# Altium schematic symbol library 7.Connectors.SchLib: 126 symbols
Pins are listed as number, name and electrical type; pins without a type are passive.

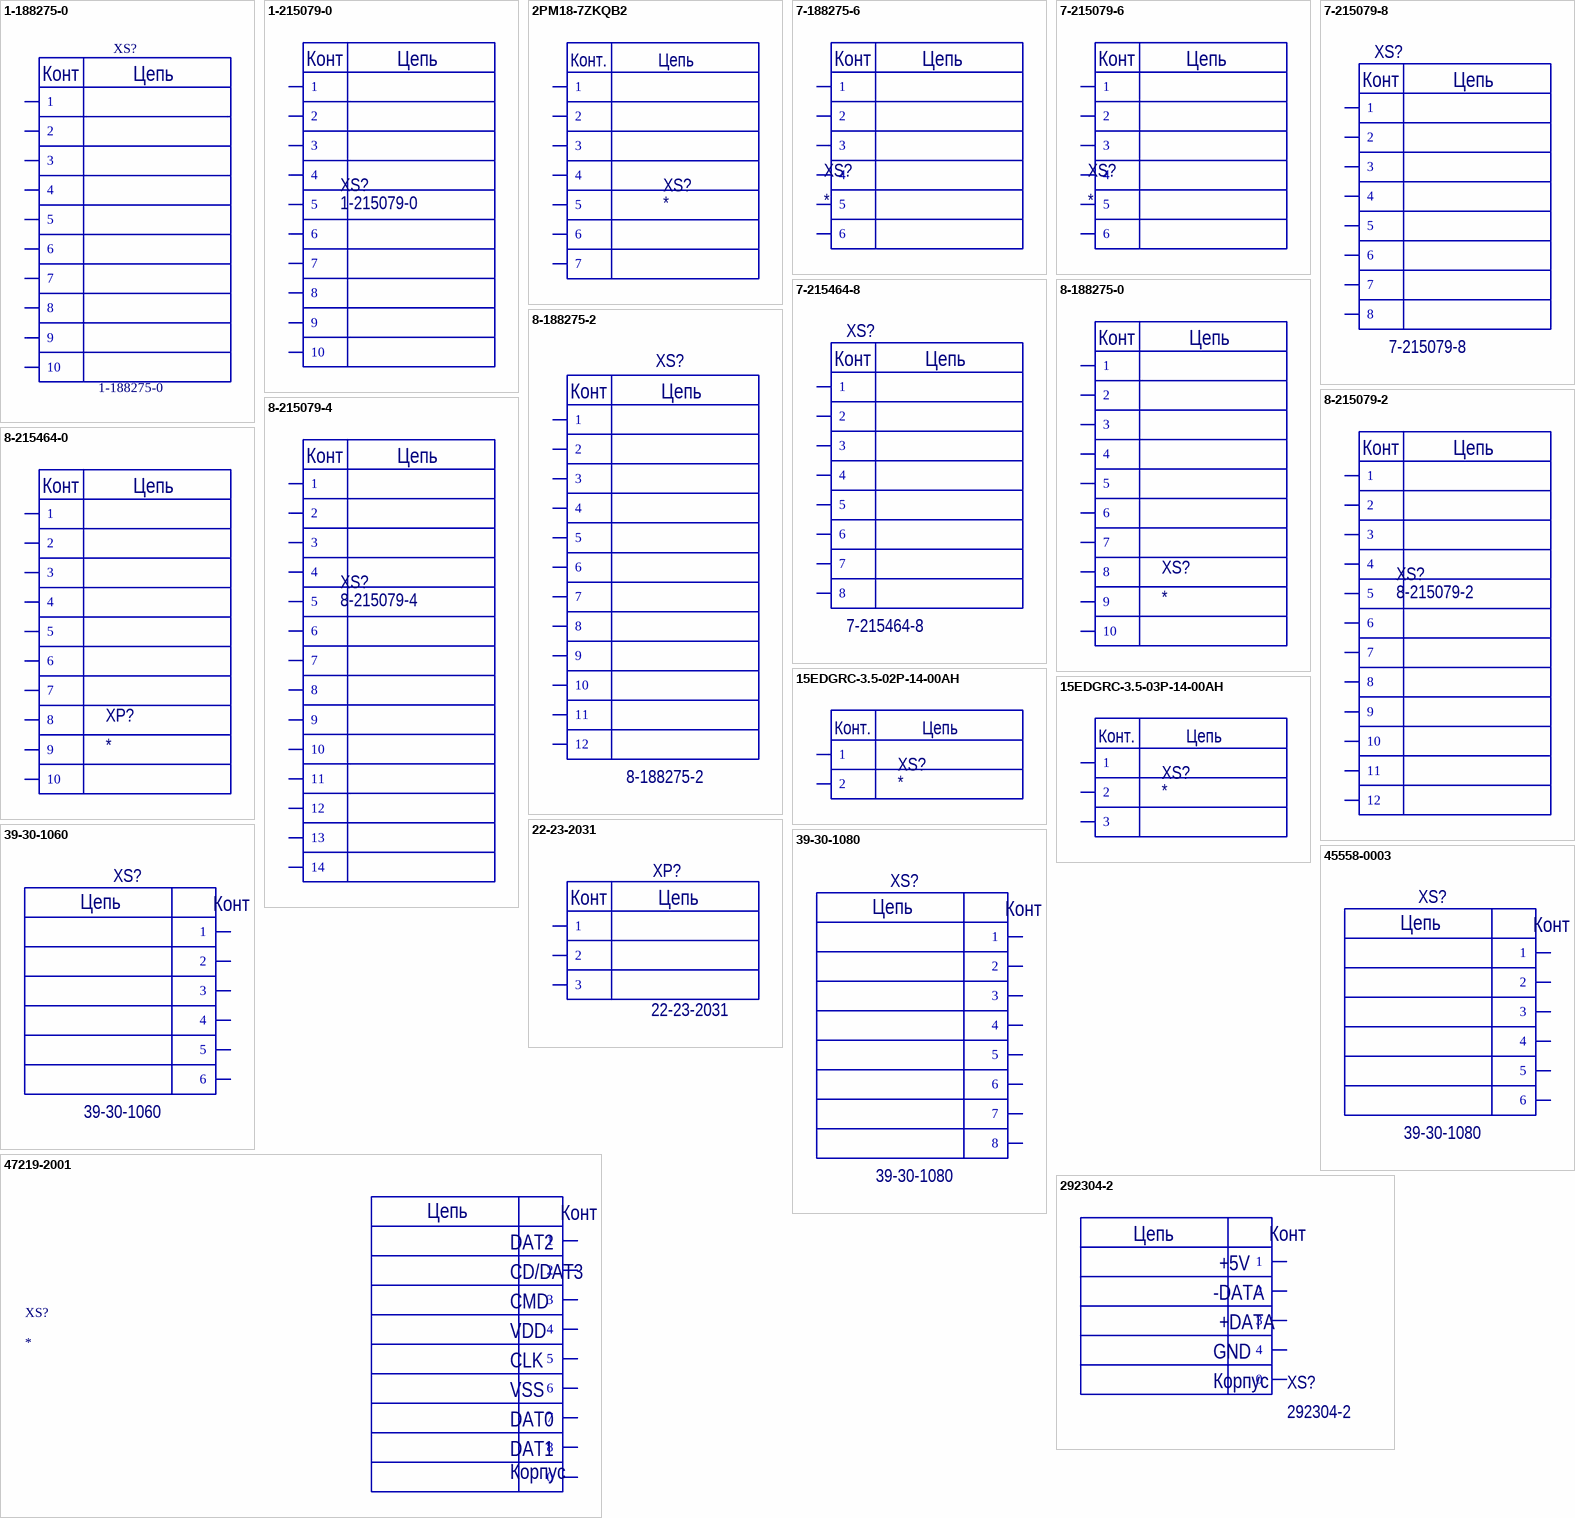
[diagram p0: symbols 1-188275-0 to 292304-2]

## 1-188275-0
designator XS?
Разъем типа плата-плата, 1.27 мм, 10 контактов
footprint 1-188275-0
pins: 1, 2, 3, 4, 5, 6, 7, 8, 9, 10
text: Конт; Цепь

## 1-215079-0
designator XS?
CONNECTOR, RCPT, 10POS, 2ROW, 1.27MM
footprint 1-215079-0
pins: 1, 2, 3, 4, 5, 6, 7, 8, 9, 10
text: Конт; Цепь

## 2PM18-7ZKQB2
designator XS?
footprint 2PM18-7ZKQB2 - duplicate
pins: 1, 2, 3, 4, 5, 6, 7
text: Конт.; Цепь

## 7-188275-6
designator XS?
footprint 7-188275-6
pins: 1, 2, 3, 4, 5, 6
text: Конт; Цепь

## 7-215079-6
designator XS?
footprint 7-215079-6 (Footprint not found)
pins: 1, 2, 3, 4, 5, 6
text: Конт; Цепь

## 7-215079-8
designator XS?
footprint 7-215079-8 (XS?)
pins: 1, 2, 3, 4, 5, 6, 7, 8
text: Конт; Цепь

## 7-215464-8
designator XS?
footprint 7-215464-8 (XS?)
pins: 1, 2, 3, 4, 5, 6, 7, 8
text: Конт; Цепь

## 8-188275-0
designator XS?
footprint 8-188275-0 (XS?)
pins: 1, 2, 3, 4, 5, 6, 7, 8, 9, 10
text: Конт; Цепь

## 8-188275-2
designator XS?
CONNECTOR, RCPT, 12POS, 2ROW, 1.27MM; Manufacturer_Name: TE Connectivity; Datasheet Link: http://www.te.com/commerce/DocumentDelivery/DDEController?Action=showdoc&DocId=Customer+Drawing%7F188275%7FS4%7Fpdf%7FEnglish%7FENG_CD_188275_S4.pdf%7F8-188275-2; Height: 5.3mm; Manufacturer_Part_Number: 8-188275-2; Mouser Part Number: 571-8-188275-2; Mouser Price/Stock: https://www.mouser.co.uk/ProductDetail/TE-Connectivity/8-188275-2?qs=Gsfs9aLB8bdKFI6G%252B37f8A%3D%3D; Arrow Part Number: 8-188275-2; Arrow Price/Stock: https://www.arrow.com/en/products/8-188275-2/te-connectivity?region=nac
footprint 81882752
pins: 1, 2, 3, 4, 5, 6, 7, 8, 9, 10, 11, 12
text: Конт; Цепь

## 8-215079-2
designator XS?
CONNECTOR, RCPT, 14POS, 2ROW, 1.27MM
footprint 8-215079-2
pins: 1, 2, 3, 4, 5, 6, 7, 8, 9, 10, 11, 12
text: Конт; Цепь

## 8-215079-4
designator XS?
CONNECTOR, RCPT, 14POS, 2ROW, 1.27MM
footprint 8-215079-4 (Footprint not found)
pins: 1, 2, 3, 4, 5, 6, 7, 8, 9, 10, 11, 12, 13, 14
text: Конт; Цепь

## 8-215464-0
designator XP?
footprint 8-215464-0
pins: 1, 2, 3, 4, 5, 6, 7, 8, 9, 10
text: Конт; Цепь

## 15EDGRC-3.5-02P-14-00AH
designator XS?
footprint 15EDGRC-3.5-02P
pins: 1, 2
text: Конт.; Цепь

## 15EDGRC-3.5-03P-14-00AH
designator XS?
footprint 15EDGRC-3.5-03P
pins: 1, 2, 3
text: Конт.; Цепь

## 22-23-2031
designator XP?
footprint 22-23-2031 (Footprint not found)
pins: 1, 2, 3
text: Конт; Цепь

## 39-30-1060
designator XS?
Разъем типа провод-плата, 4.2 мм, 6 контактов; Manufacturer_Name: Molex; Datasheet Link: https://www.molex.com/pdm_docs/sd/039300020_sd.pdf; Height: 10mm; Manufacturer_Part_Number: 39-30-1060; Mouser Part Number: 538-39-30-1060; Mouser Price/Stock: https://www.mouser.co.uk/ProductDetail/Molex/39-30-1060?qs=tRPrwvvr%2FujbUr18ehTIWQ%3D%3D
footprint 39-30-106Y_012
pins: 1, 2, 3, 4, 5, 6
text: Цепь; Конт

## 39-30-1080
designator XS?
Разъем типа провод-плата, вертикальный, 8 контакт(-ов), шаг 4.2мм Штыревой Разъем угловой серия Mini-Fit монтаж в отверстие; Manufacturer_Name: Molex; Datasheet Link: https://www.molex.com/pdm_docs/sd/039300020_sd.pdf; Height: 10mm; Manufacturer_Part_Number: 39-30-1080; Mouser Part Number: 538-39-30-1080; Mouser Price/Stock: https://www.mouser.co.uk/ProductDetail/Molex/39-30-1080?qs=tRPrwvvr%2FuiZl%252BsjwLcglw%3D%3D
footprint 39301080
pins: 1, 2, 3, 4, 5, 6, 7, 8
text: Цепь; Конт

## 45558-0003
designator XS?, comment 39-30-1080
Разъем типа провод-плата, вертикальный, 6 контакт(-ов), шаг 4.2мм Штыревой Разъем угловой серия Mini-Fit монтаж в отверстие; Manufacturer_Name: Molex; Datasheet Link: https://www.molex.com/pdm_docs/sd/039300020_sd.pdf; Height: 10mm; Manufacturer_Part_Number: 39-30-1080; Mouser Part Number: 538-39-30-1080; Mouser Price/Stock: https://www.mouser.co.uk/ProductDetail/Molex/39-30-1080?qs=tRPrwvvr%2FuiZl%252BsjwLcglw%3D%3D
footprint 455580003
pins: 1, 2, 3, 4, 5, 6
text: Цепь; Конт

## 47219-2001
designator XS?
micro SD connector; Manufacturer_Name: Molex; Manufacturer_Part_Number: 47219-2001; Datasheet Link: http://www.molex.com/molex/products/datasheet.jsp?part=active/0472192001_MEMORY_CARD_SOCKET.xml&channel=Products&Lang=en-US; Mouser Part Number: 538-47219-2001; Mouser Price/Stock: https://www.mouser.co.uk/ProductDetail/Molex/47219-2001?qs=6kT3pPPHxnVaoXw6Dd7beQ%3D%3D
footprint 472192001
pins: 0, 1, 2, 3, 4, 5, 6, 7, 8
text: Цепь; Конт; DAT2; CD/DAT3; CMD; VDD; CLK; VSS; DAT0; DAT1; Корпус

## 292304-2
designator XS?
footprint USB-B
pins: 0, 1, 2, 3, 4
text: Цепь; Конт; +5V; -DATA; +DATA; GND; Корпус

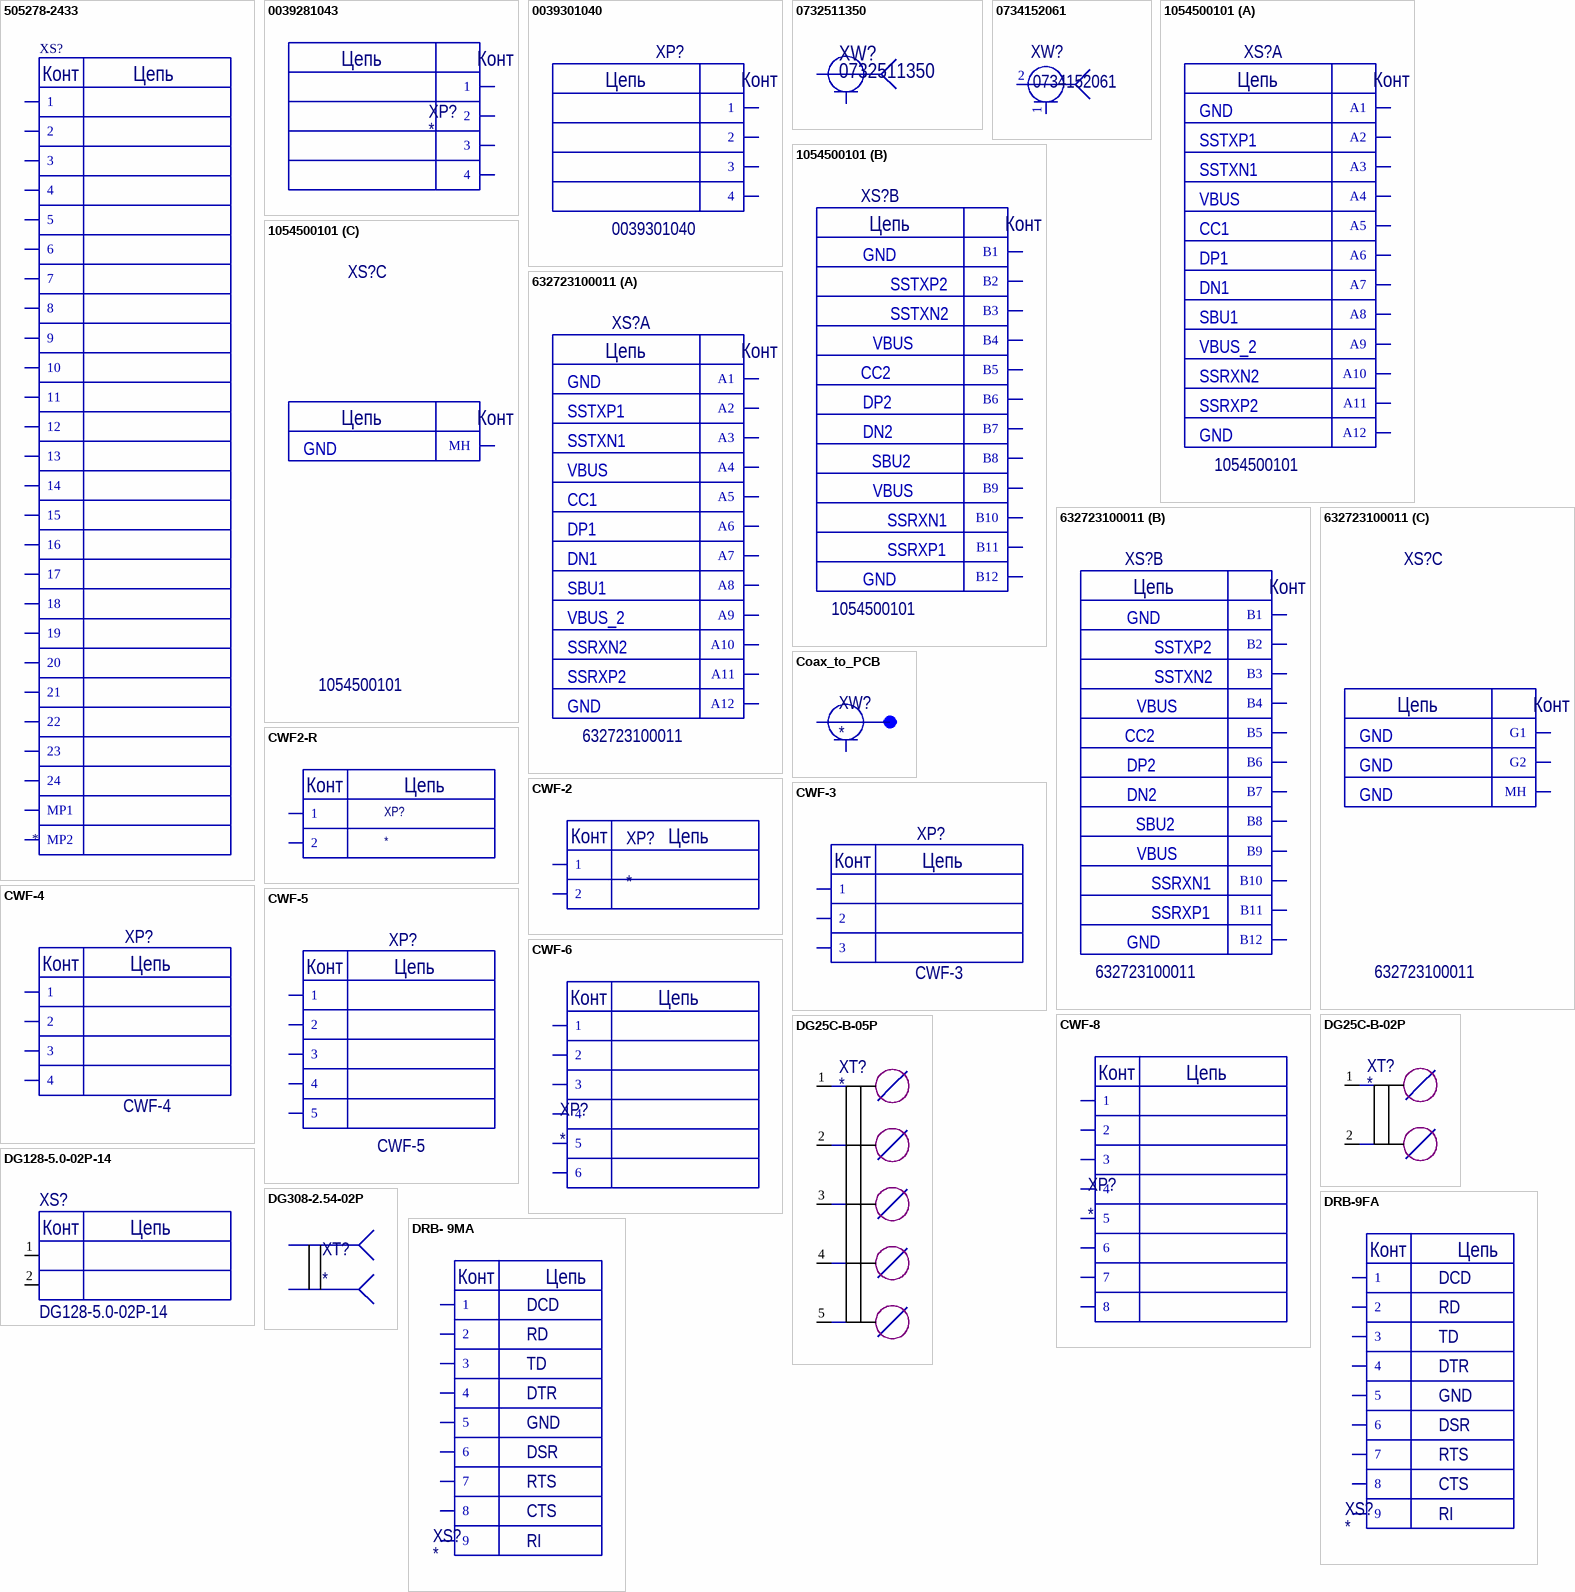
[diagram p1: symbols 505278-2433 to DRB- 9MA]

## 505278-2433
designator XS?
Connector; Manufacturer_Name: Molex; Manufacturer_Part_Number: 505278-2433; Datasheet Link: https://www.molex.com/pdm_docs/sd/5052782433_sd.pdf; Height: 2.15mm; Mouser Part Number: 538-505278-2433; Mouser Price/Stock: https://www.mouser.co.uk/ProductDetail/Molex/505278-2433?qs=c8NFF48pVsA%2FR7fI7C8RJQ%3D%3D
footprint 5052782433
pins: 1, 2, 3, 4, 5, 6, 7, 8, 9, 10, 11, 12, 13, 14, 15, 16, 17, 18, 19, 20, 21, 22, 23, 24, MP1, MP2
text: Конт; Цепь

## 0039281043
designator XP?
CONN HEADER VERT 4POS 4.2MM
footprint 0039281043 (CONN HEADER VERT 4POS 4.2MM)
pins: 1, 2, 3, 4
text: Цепь; Конт

## 0039301040
designator XP?
CONN 4POS 4.2MM Серия Mini-Fit Jr, гнездо, "папа", PIN 4
footprint 0039301040 (Серия Mini-Fit Jr, гнездо, "папа", PIN 4)
pins: 1, 2, 3, 4
text: Цепь; Конт

## 0732511350
designator XW?
SMA SMD
footprint 0732511350
pins: 1, 2

## 0734152061
designator XW?
MMCX STRAIGHT, SMT JACK- 50 OHM.; MANUFACTURER: SAMTEC; PCB DECAL: MMCX-J-P-X-ST-SM1; CREATED: April 14, 2016 - Wendy Xin
footprint MMCX-J-P-X-ST-SM1 (0734152061)
pins: 1, 2

## 1054500101
designator XS?
SB-разъем; Type C; USB 3.1; 30 В; 5 А; розетка; угловой, -30…85 °С; SMD
footprint 1054500101
footprint 1054500101 - 0,2
part A pins: A1 "GND", A2 "SSTXP1", A3 "SSTXN1", A4 "VBUS", A5 "CC1", A6 "DP1", A7 "DN1", A8 "SBU1", A9 "VBUS_2", A10 "SSRXN2", A11 "SSRXP2", A12 "GND"
part B pins: B1 "GND", B2 "SSTXP2", B3 "SSTXN2", B4 "VBUS", B5 "CC2", B6 "DP2", B7 "DN2", B8 "SBU2", B9 "VBUS", B10 "SSRXN1", B11 "SSRXP1", B12 "GND"
part C pins: MH
part A text: Цепь; Конт; GND; SSTXP1; SSTXN1; VBUS; CC1; DP1; DN1; SBU1; VBUS_2; SSRXN2; SSRXP2
part B text: Цепь; Конт; GND; SSTXP2; SSTXN2; VBUS; CC2; DP2; DN2; SBU2; SSRXN1; SSRXP1
part C text: Цепь; Конт; GND

## 632723100011
designator XS?
USB 3.1 Type C
footprint 632723100011 (USB 3.1 Type C)
part A pins: A1 "GND", A2 "SSTXP1", A3 "SSTXN1", A4 "VBUS", A5 "CC1", A6 "DP1", A7 "DN1", A8 "SBU1", A9 "VBUS_2", A10 "SSRXN2", A11 "SSRXP2", A12 "GND"
part B pins: B1 "GND", B2 "SSTXP2", B3 "SSTXN2", B4 "VBUS", B5 "CC2", B6 "DP2", B7 "DN2", B8 "SBU2", B9 "VBUS", B10 "SSRXN1", B11 "SSRXP1", B12 "GND"
part C pins: G1 "GND", G2 "GND", MH
part A text: Цепь; Конт; GND; SSTXP1; SSTXN1; VBUS; CC1; DP1; DN1; SBU1; VBUS_2; SSRXN2; SSRXP2
part B text: Цепь; Конт; GND; SSTXP2; SSTXN2; VBUS; CC2; DP2; DN2; SBU2; SSRXN1; SSRXP1
part C text: Цепь; Конт; GND

## Coax_to_PCB
designator XW?
footprint COAX_TO_PCB
pins: 1, 2

## CWF2-R
designator XP?
footprint CWF-2R
pins: 1, 2
text: Конт; Цепь

## CWF-2
designator XP?
footprint CWF-2
pins: 1, 2
text: Конт; Цепь

## CWF-3
designator XP?
footprint CWF-3 (Footprint not found)
pins: 1, 2, 3
text: Конт; Цепь

## CWF-4
designator XP?
footprint CWF-4
pins: 1, 2, 3, 4
text: Конт; Цепь

## CWF-5
designator XP?
footprint CWF-5
pins: 1, 2, 3, 4, 5
text: Конт; Цепь

## CWF-6
designator XP?
footprint CWF-6
pins: 1, 2, 3, 4, 5, 6
text: Конт; Цепь

## CWF-8
designator XP?
footprint CWF-8
pins: 1, 2, 3, 4, 5, 6, 7, 8
text: Конт; Цепь

## DG25C-B-02P
designator XT?
footprint DG25C-B-02P
pins: 1, 2

## DG25C-B-05P
designator XT?
footprint DG25C-B-05P
pins: 1, 2, 3, 4, 5

## DG128-5.0-02P-14
designator XS?
footprint DG128-5.0-02P-14
pins: 1, 2
text: Конт; Цепь

## DG308-2.54-02P
designator XT?
footprint DG308-2.54-02P
pins: 1, 2

## DRB-9FA
designator XS?
footprint DRB-9FA
pins: 1, 2, 3, 4, 5, 6, 7, 8, 9
text: Конт; Цепь; DCD; RD; TD; DTR; GND; DSR; RTS; CTS; RI

## DRB- 9MA
designator XS?
footprint DRB- 9MA
pins: 1, 2, 3, 4, 5, 6, 7, 8, 9
text: Конт; Цепь; DCD; RD; TD; DTR; GND; DSR; RTS; CTS; RI

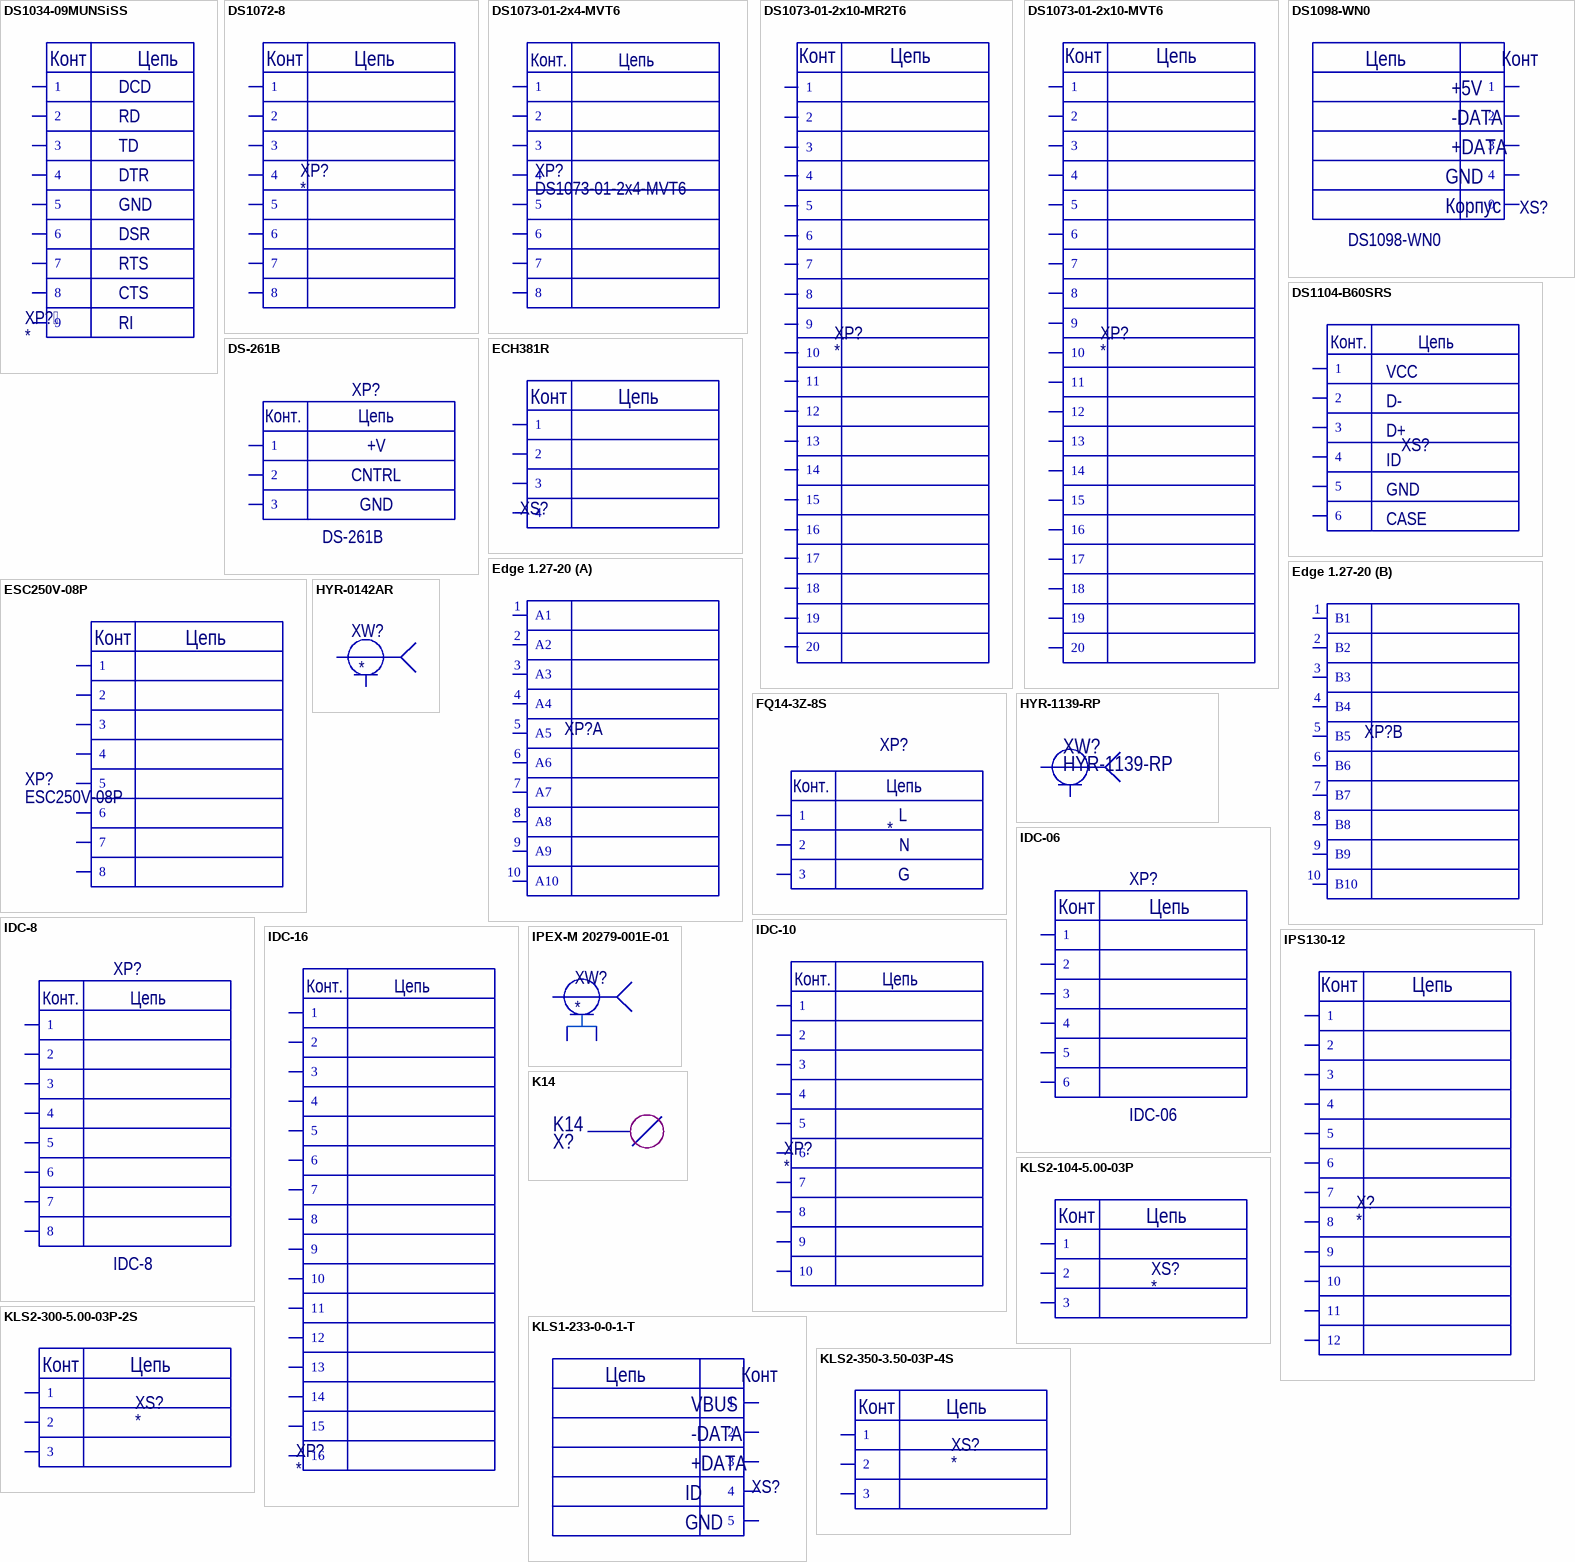
[diagram p2: symbols DS1034-09MUNSiSS to KLS2-350-3.50-03P-4S]

## DS1034-09MUNSiSS
designator XP?
footprint DS1034-09MUNSiSS
pins: 1, 2, 3, 4, 5, 6, 7, 8, 9
text: Конт; Цепь; DCD; RD; TD; DTR; GND; DSR; RTS; CTS; RI

## DS1072-8
designator XP?
footprint PWL-8
pins: 1, 2, 3, 4, 5, 6, 7, 8
text: Конт; Цепь

## DS1073-01-2x4-MVT6
designator XP?
Вилка на плату прямая 4.2мм 8pin
footprint DS1073-01-2x4-MVT6
pins: 1, 2, 3, 4, 5, 6, 7, 8
text: Конт.; Цепь

## DS1073-01-2x10-MR2T6
designator XP?
footprint DS1073-01-2x10
pins: 1, 2, 3, 4, 5, 6, 7, 8, 9, 10, 11, 12, 13, 14, 15, 16, 17, 18, 19, 20
text: Конт; Цепь

## DS1073-01-2x10-MVT6
designator XP?
footprint DS1073-01-2x10-MVT6
pins: 1, 2, 3, 4, 5, 6, 7, 8, 9, 10, 11, 12, 13, 14, 15, 16, 17, 18, 19, 20
text: Конт; Цепь

## DS1098-WN0
designator XS?
footprint DS1098-WN0
pins: 0, 1, 2, 3, 4
text: Цепь; Конт; +5V; -DATA; +DATA; GND; Корпус

## DS1104-B60SRS
designator XS?  (value not drawn)
footprint DS1104
pins: 1, 2, 3, 4, 5, 6
text: Конт.; Цепь; VCC; D-; D+; ID; GND; CASE

## DS-261B
designator XP?
footprint DS-261
pins: 1, 2, 3
text: Конт.; Цепь; +V; CNTRL; GND

## ECH381R
designator XS?  (value not drawn)
footprint ECH381R
pins: 1, 2, 3, 4
text: Конт; Цепь

## Edge 1.27-20
designator XP?  (value not drawn)
footprint Edge 1.27-20
part A pins: 1 A1, 2 A2, 3 A3, 4 A4, 5 A5, 6 A6, 7 A7, 8 A8, 9 A9, 10 A10
part B pins: 1 B1, 2 B2, 3 B3, 4 B4, 5 B5, 6 B6, 7 B7, 8 B8, 9 B9, 10 B10

## ESC250V-08P
designator XP?
footprint ESC250V-08P
pins: 1, 2, 3, 4, 5, 6, 7, 8
text: Конт; Цепь

## FQ14-3Z-8S
designator XP?
footprint FQ14-3Z-8S
pins: 1, 2, 3
text: Конт.; Цепь; L; N; G

## HYR-0142AR
designator XW?
footprint HYR-0142AR
pins: 1, 2

## HYR-1139-RP
designator XW?
footprint SMA (HYR1139)
pins: 1, 2

## IDC-06
designator XP?
footprint IDC-06
pins: 1, 2, 3, 4, 5, 6
text: Конт; Цепь

## IDC-8
designator XP?
footprint IDC-8 R
pins: 1, 2, 3, 4, 5, 6, 7, 8
text: Конт.; Цепь

## IDC-10
designator XP?
footprint IDC-10
footprint IDC-10 R
pins: 1, 2, 3, 4, 5, 6, 7, 8, 9, 10
text: Конт.; Цепь

## IDC-16
designator XP?
footprint IDC-16
pins: 2, 2 8, 3, 3 9, 4, 4 10, 5, 6, 7, 11, 12, 13, 14, 15, 16, SWDCLK 1
text: Конт.; Цепь

## IPEX-M 20279-001E-01
designator XW?
footprint IPEX
pins: 1, 2, 3

## IPS130-12
designator X?
footprint IPS130-12
pins: 1, 2, 3, 4, 5, 6, 7, 8, 9, 10, 11, 12
text: Конт; Цепь

## K14
designator X?
footprint K14
pins: 1

## KLS1-233-0-0-1-T
designator XS?  (value not drawn)
footprint KLS1-233-0-0-1-T
pins: 1, 2, 3, 4, 5
text: Цепь; Конт; VBUS; -DATA; +DATA; ID; GND

## KLS2-104-5.00-03P
designator XS?
Клеммник винтовой 3-контактный, 5мм, прямой
footprint KLS2-104-5.00-03P
pins: 1, 2, 3
text: Конт; Цепь

## KLS2-300-5.00-03P-2S
designator XS?
Клеммник винтовой, 3-контактный, 5мм, прямой
footprint KLS2-350-3.50-03P-4S
pins: 1, 2, 3
text: Конт; Цепь

## KLS2-350-3.50-03P-4S
designator XS?
Клеммник, 3-контактный, 3.5мм
footprint KLS2-350-3.50-03P-4S
pins: 1, 2, 3
text: Конт; Цепь

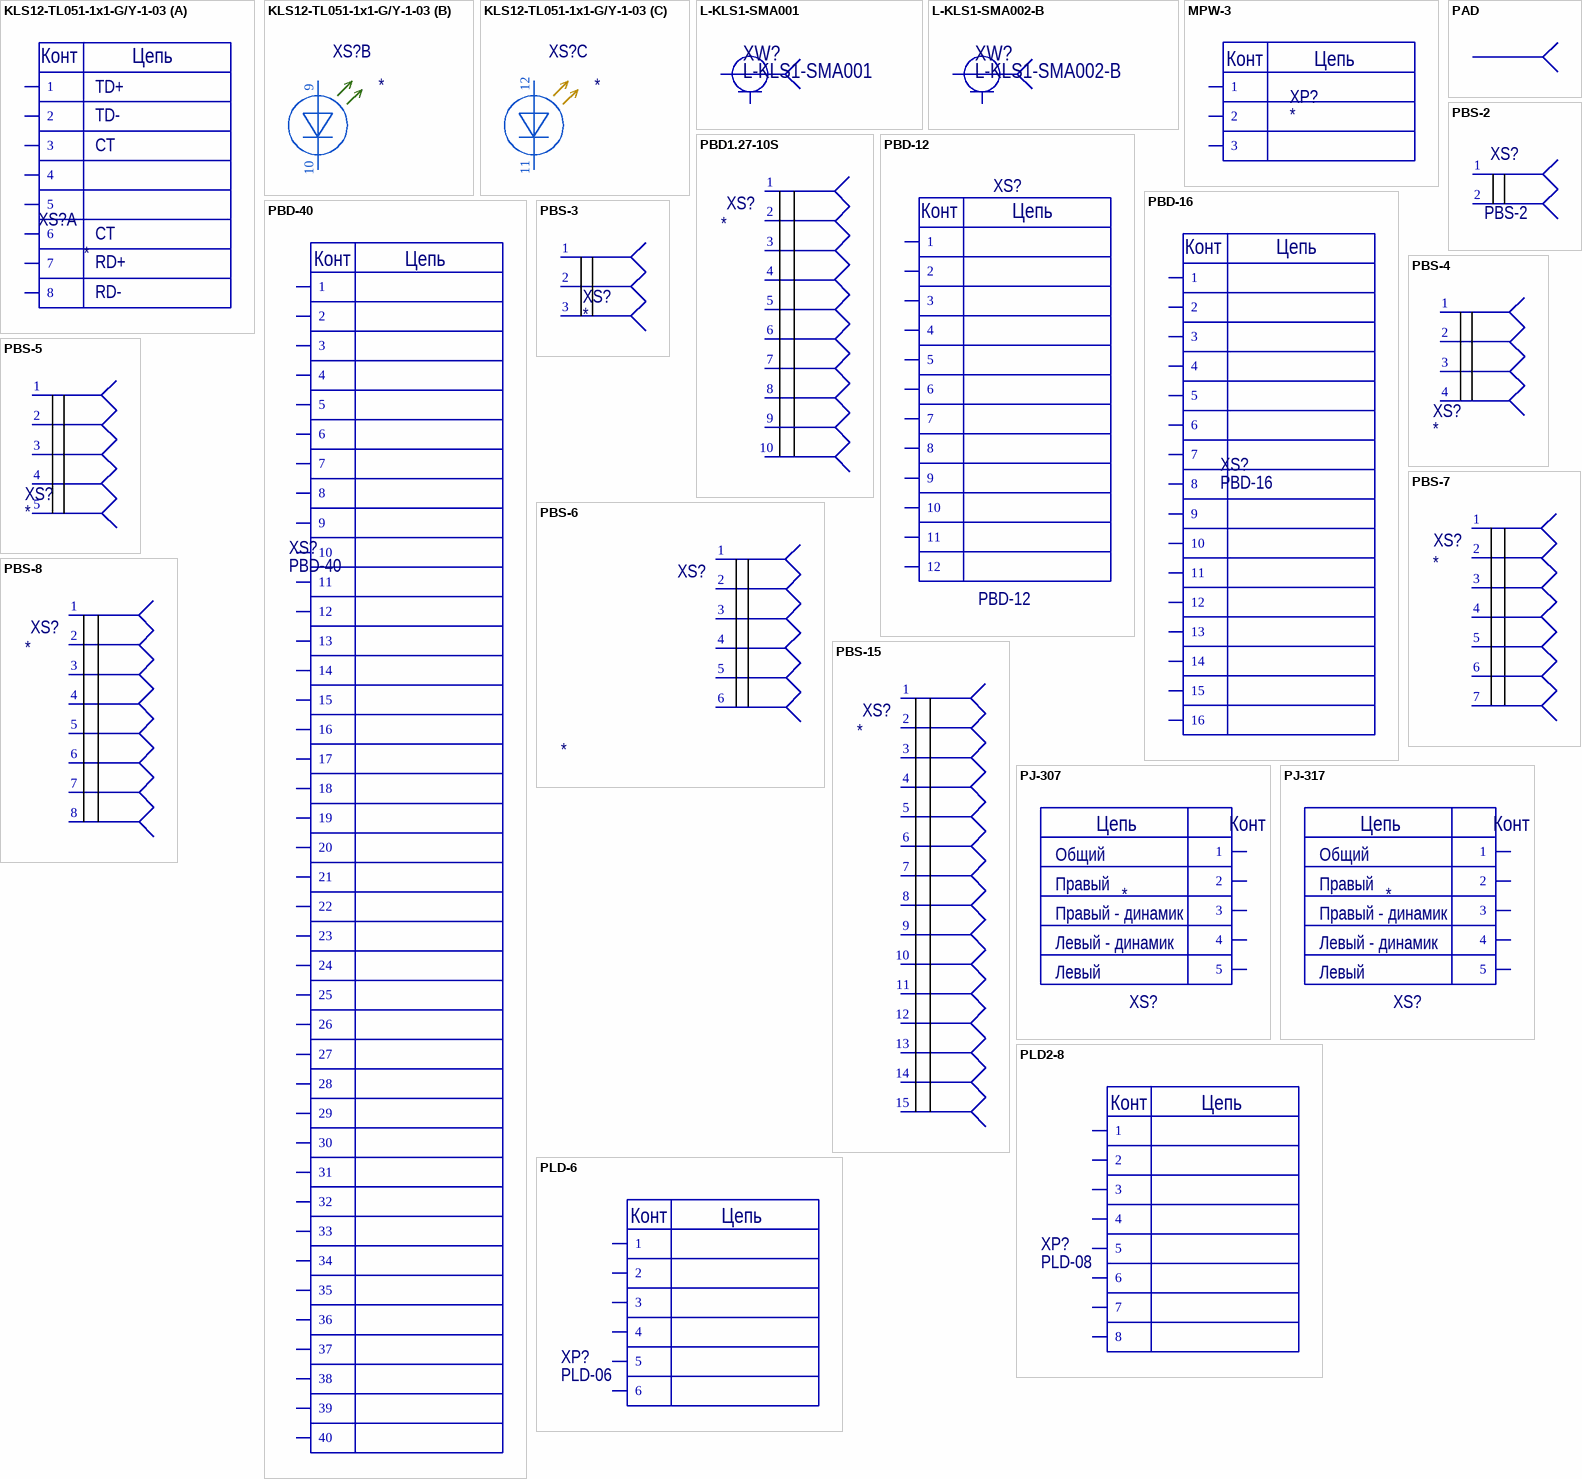
[diagram p3: symbols KLS12-TL051-1x1-G/Y-1-03 to PLD-6]

## KLS12-TL051-1x1-G/Y-1-03
designator XS?
TJ16S-8P8C Разъем на плату 8-8 (RJ-45)
footprint KLS12-TL051 (Footprint not found)
part A pins: 1, 2, 3, 4, 5, 6, 7, 8
part B pins: 9, 10
part C pins: 11, 12
part A text: Конт; Цепь; TD+; TD-; CT; RD+; RD-

## L-KLS1-SMA001
designator XW?
footprint SMA
pins: 1, 2

## L-KLS1-SMA002-B
designator XW?
footprint SMA-JR
pins: 1, 2

## MPW-3
designator XP?
footprint MPW-3
pins: 1, 2, 3
text: Конт; Цепь

## PAD
designator X?  (value not drawn)
footprint PAD_POWER_(Circle 1.5)
footprint PAD_POWER_(Circle 4)
footprint PAD_POWER_(Rounded rectangle 1.5)
footprint PAD_POWER_(Rounded rectangle 4)
pins: 1

## PBD1.27-10S
designator XS?
footprint PBD-1.27-10S
pins: 1, 2, 3, 4, 5, 6, 7, 8, 9, 10

## PBD-12
designator XS?
footprint pbd-12
pins: 1, 2, 3, 4, 5, 6, 7, 8, 9, 10, 11, 12
text: Конт; Цепь

## PBD-16
designator XS?
footprint PBD-16
pins: 1, 2, 3, 4, 5, 6, 7, 8, 9, 10, 11, 12, 13, 14, 15, 16
text: Конт; Цепь

## PBD-40
designator XS?
footprint PBD-40
pins: 1, 2, 3, 4, 5, 6, 7, 8, 9, 10, 11, 12, 13, 14, 15, 16, 17, 18, 19, 20, 21, 22, 23, 24, 25, 26, 27, 28, 29, 30, 31, 32, 33, 34, 35, 36, 37, 38, 39, 40
text: Конт; Цепь

## PBS-2
designator XS?
footprint pbs-2
pins: 1, 2

## PBS-3
designator XS?
footprint PBS-3
pins: 1, 2, 3

## PBS-4
designator XS?
footprint PBS-4
pins: 1, 2, 3, 4

## PBS-5
designator XS?
footprint PBS-5
pins: 1, 2, 3, 4, 5

## PBS-6
designator XS?
footprint PBS-6
pins: 1, 2, 3, 4, 5, 6

## PBS-7
designator XS?
footprint PBS-7
pins: 1, 2, 3, 4, 5, 6, 7

## PBS-8
designator XS?
footprint PBS-8
pins: 1, 2, 3, 4, 5, 6, 7, 8

## PBS-15
designator XS?
footprint PBS-15
pins: 1, 2, 3, 4, 5, 6, 7, 8, 9 1, 10 2, 11 3, 12 4, 13 5, 14 6, 15 7

## PJ-307
designator XS?
footprint PJ-307
pins: 1, 2, 3, 4, 5
text: Цепь; Конт; Общий; Правый; Правый - динамик; Левый - динамик; Левый

## PJ-317
designator XS?
footprint PJ-317
pins: 1, 2, 3, 4, 5
text: Цепь; Конт; Общий; Правый; Правый - динамик; Левый - динамик; Левый

## PLD2-8
designator XP?, comment PLD-08
footprint PLD2-8 (Footprint not found)
pins: 1, 2, 3, 4, 5, 6, 7, 8
text: Конт; Цепь

## PLD-6
designator XP?, comment PLD-06
footprint PLD-6
pins: 1, 2, 3, 4, 5, 6
text: Конт; Цепь

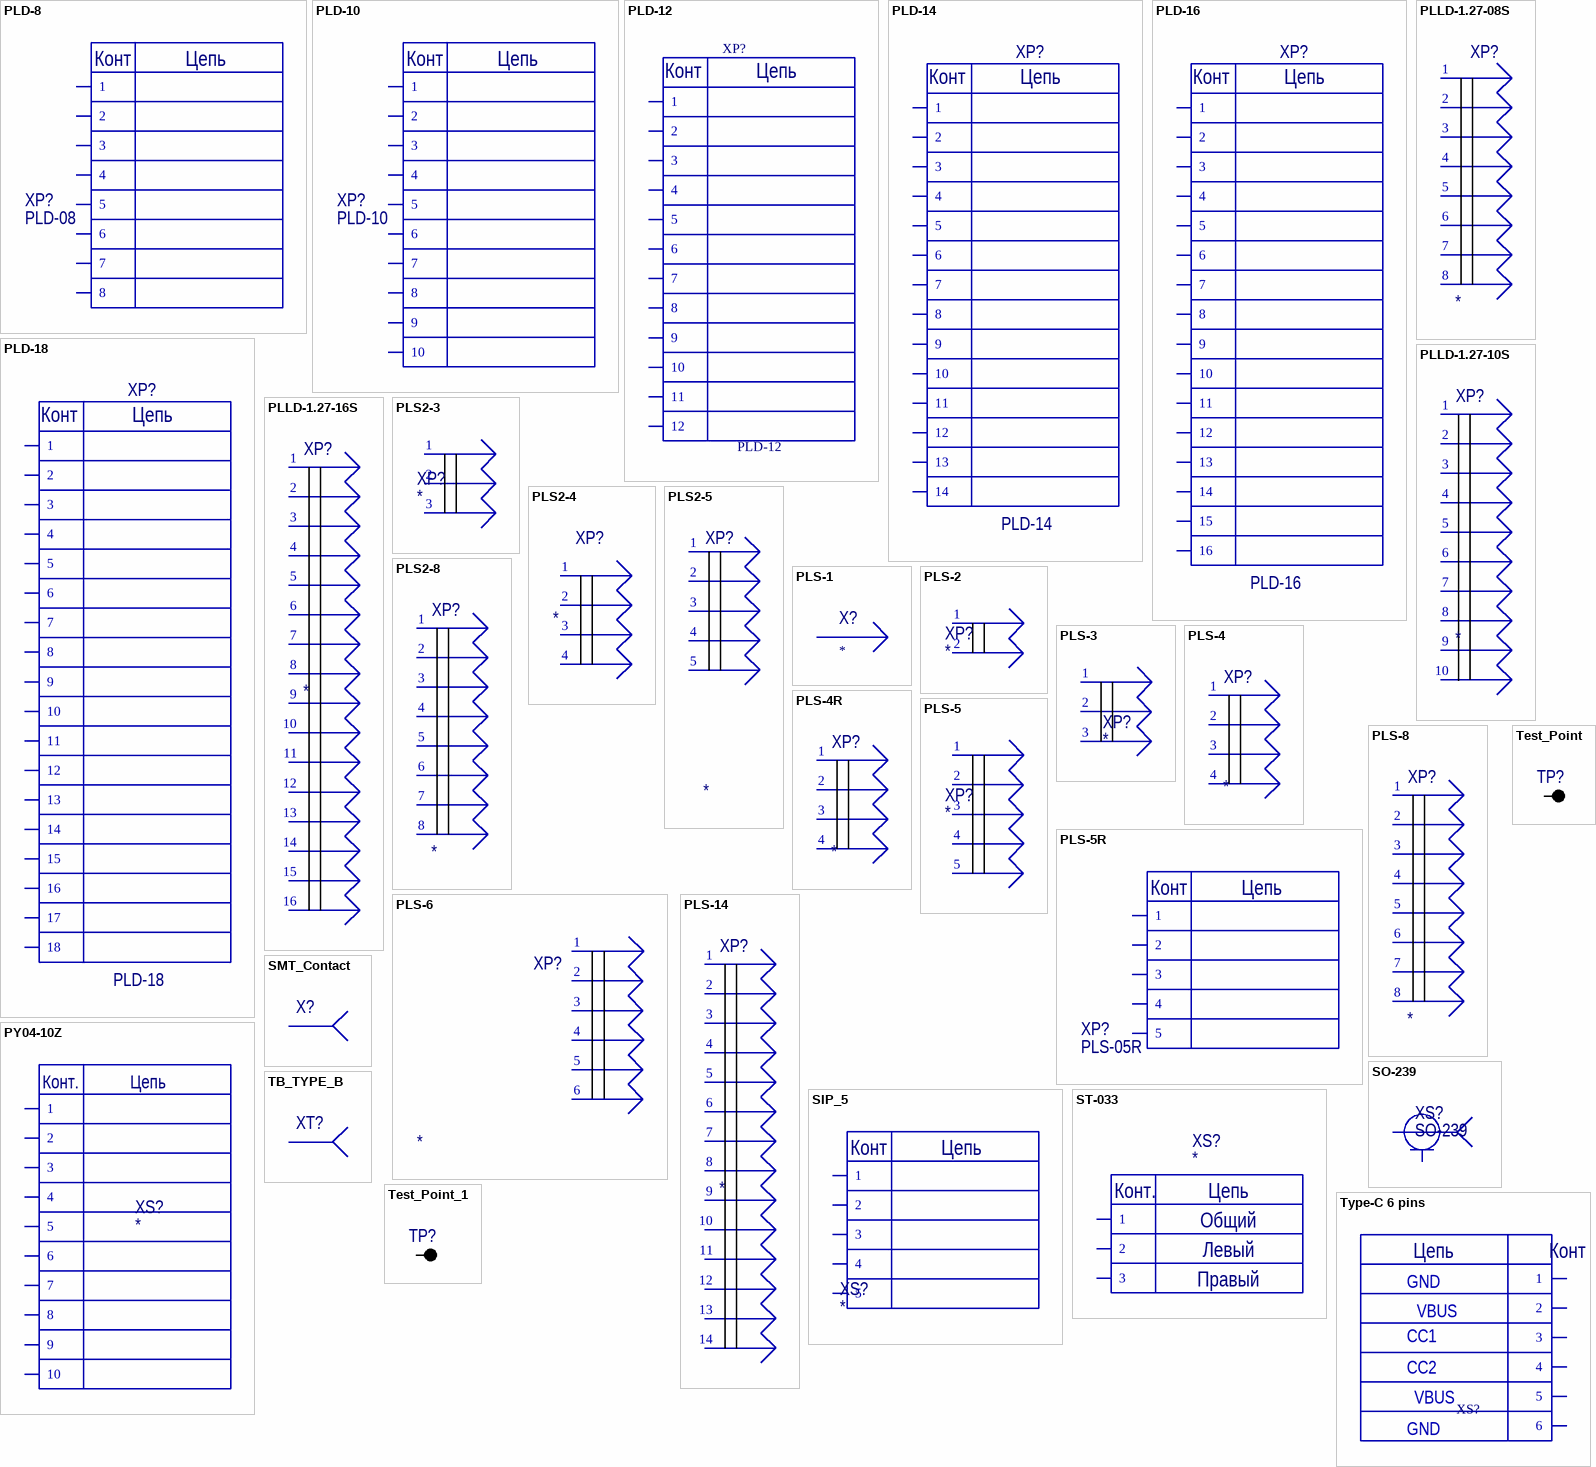
[diagram p4: symbols PLD-8 to Type-C 6 pins]

## PLD-8
designator XP?, comment PLD-08
footprint PLD-8
pins: 1, 2, 3, 4, 5, 6, 7, 8
text: Конт; Цепь

## PLD-10
designator XP?
footprint PLD-10
pins: 1, 2, 3, 4, 5, 6, 7, 8, 9, 10
text: Конт; Цепь

## PLD-12
designator XP?
footprint PLD-12
pins: 1, 2, 3, 4, 5, 6, 7, 8, 9, 10, 11, 12
text: Конт; Цепь

## PLD-14
designator XP?
footprint PLD-14
pins: 1, 2, 3, 4, 5, 6, 7, 8, 9, 10, 11, 12, 13, 14
text: Конт; Цепь

## PLD-16
designator XP?
footprint PLD-16
pins: 1, 2, 3, 4, 5, 6, 7, 8, 9, 10, 11, 12, 13, 14, 15, 16
text: Конт; Цепь

## PLD-18
designator XP?
footprint PLD-18
pins: 1, 2, 3, 4, 5, 6, 7, 8, 9, 10, 11, 12, 13, 14, 15, 16, 17, 18
text: Конт; Цепь

## PLLD-1.27-08S
designator XP?
footprint PLLD-1.27-08S
pins: 1, 2, 3, 4, 5, 6, 7, 8

## PLLD-1.27-10S
designator XP?
footprint PLLD-1.27-10S
pins: 1, 2, 3, 4, 5, 6, 7, 8, 9, 10

## PLLD-1.27-16S
designator XP?
footprint PLLD-1.27-16S
pins: 1, 2, 3, 4, 5, 6, 7, 8, 9, 10, 11, 12, 13, 14, 15, 16

## PLS2-3
designator XP?
footprint PLS2-3
pins: 1, 2, 3

## PLS2-4
designator XP?
footprint PLS2-4
pins: 1, 2, 3, 4

## PLS2-5
designator XP?
footprint PLS2-5
pins: 1, 2, 3, 4, 5

## PLS2-8
designator XP?
footprint PLS2-8
pins: 1, 2, 3, 4, 5, 6, 7, 8

## PLS-1
designator X?
footprint PLS-1
pins: 1

## PLS-2
designator XP?
footprint PLS-2 (PLS-2 вилка штыревая 2.54мм 1x2 прямая)
pins: 1, 2

## PLS-3
designator XP?
footprint PLS-3
pins: 1, 2, 3

## PLS-4
designator XP?
footprint PLS-4
pins: 1, 2, 3, 4

## PLS-4R
designator XP?
footprint PLS-4R
pins: 1, 2, 3, 4

## PLS-5
designator XP?
footprint PLS-5
pins: 1, 2, 3, 4, 5

## PLS-5R
designator XP?, comment PLS-05R
footprint PLS-5R
pins: 1, 2, 3, 4, 5
text: Конт; Цепь

## PLS-6
designator XP?
footprint PLS-6
pins: 1, 2, 3, 4, 5, 6

## PLS-8
designator XP?
footprint PLS-8
pins: 1, 2, 3, 4, 5, 6, 7, 8

## PLS-14
designator XP?
footprint PLS-14 (Footprint not found)
pins: 1, 2, 3, 4, 5, 6, 7, 8, 9, 10, 11, 12, 13, 14

## PY04-10Z
designator XS?
footprint PY04-10Z
pins: 1, 2, 3, 4, 5, 6, 7, 8, 9, 10
text: Конт.; Цепь

## SIP_5
designator XS?
footprint SIP_5
pins: 1, 2, 3, 4, 5
text: Конт; Цепь

## SMT_Contact
designator X?  (value not drawn)
footprint SMT_CONTACT_TYPE_1
footprint SMT_CONTACT_TYPE_2
footprint SMT_CONTACT_TYPE_3
pins: 1

## SO-239
designator XS?
footprint SO-259
pins: 1, 2

## ST-033
designator XS?
footprint ST-033
pins: 2, 3, SWDCLK 1
text: Конт.; Цепь; Общий; Левый; Правый

## TB_TYPE_B
designator XT?  (value not drawn)
Винтовые клеммы для печатной платы
footprint TB_TYPE_B
pins: 1

## Test_Point
designator TP?  (value not drawn)
footprint TEST_POINT_1
pins: 1

## Test_Point_1
designator TP?
footprint Test_point
pins: 1

## Type-C 6 pins
designator XS?, comment TYPE-C 06PF-073  (value not drawn)
USB3.1 TYPE-C 06PF-073
footprint Type-C 6 pins
pins: 1 "GND", 2 "SSTXP2", 3 "SSTXN2", 4 "VBUS", 5 "CC2", 6 "CC2"
text: Цепь; Конт; GND; VBUS; CC1; CC2

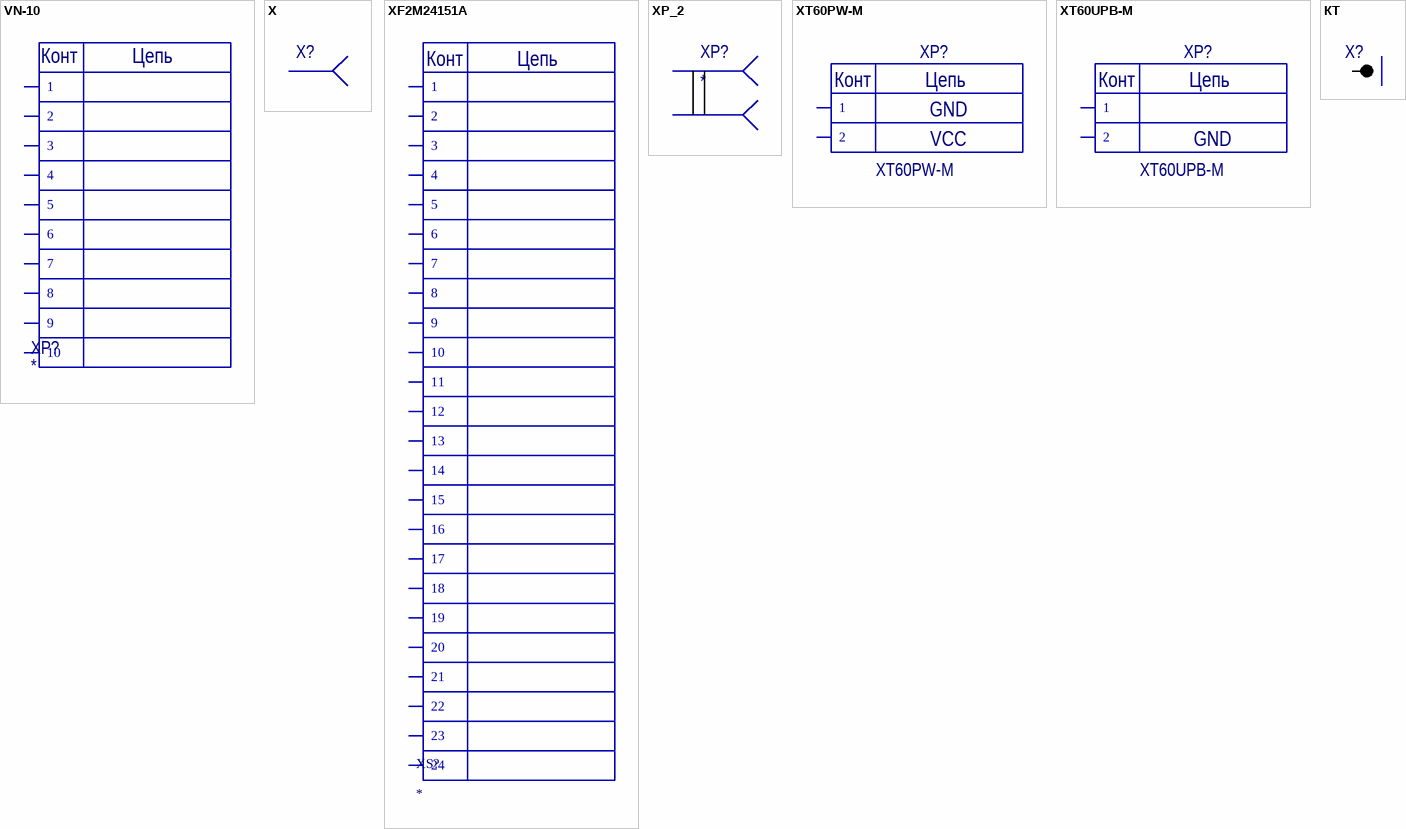
[diagram p5: symbols VN-10 to КТ]

## VN-10
designator XP?
footprint VN-10
pins: 1, 2, 3, 4, 5, 6, 7, 8, 9, 10
text: Конт; Цепь

## X
designator X?  (value not drawn)
Контактная площадка
footprint TH_Сontact
footprint KT_1
footprint PAD3x6
footprint KT_0
footprint SMT_CONTACT_TYPE_4
footprint TH_Сontact - round
pins: 1

## XF2M24151A
designator XS?
Разъем для поверхностного монтажа под сверхплоский FFC/FPC-кабель c шагом 0,5.; Manufacturer_Name: Omron Electronics; Manufacturer_Part_Number: xf2m-2415-1a; Datasheet Link: https://datasheet.datasheetarchive.com/originals/distributors/Datasheets_SAMA/767a452bb627be1d72d9bdec57b603be.pdf; Mouser Part Number: 653-XF2M-2415-1A; Mouser Price/Stock: https://www.mouser.co.uk/ProductDetail/Omron-Electronics/XF2M-2415-1A?qs=RIpVvizQEW8HxRPVlRNgGg%3D%3D; Arrow Part Number: XF2M-2415-1A; Arrow Price/Stock: https://www.arrow.com/en/products/xf2m-2415-1a/omron?region=nac
footprint XF2M-2415-1A (Footprint not found)
pins: 1, 2, 3, 4, 5, 6, 7, 8, 9, 10, 11, 12, 13, 14, 15, 16, 17, 18, 19, 20, 21, 22, 23, 24
text: Конт; Цепь

## XP_2
designator XP?
pins: 1, 2

## XT60PW-M
designator XP?
Банан на плату мама угловой
footprint XT60PWM
pins: 1, 2
text: Конт; Цепь; GND; VCC

## XT60UPB-M
designator XP?
Банан на плату мама
footprint XT60UPB-M
pins: 1, 2
text: Конт; Цепь; GND

## КТ
designator X?  (value not drawn)
footprint KT
footprint KT_1
footprint KT_2
pins: 1